# Altium schematic symbol library 龙邱遥控器V1.SCHLIB: 30 symbols
Pins are listed as number, name and electrical type; pins without a type are passive.

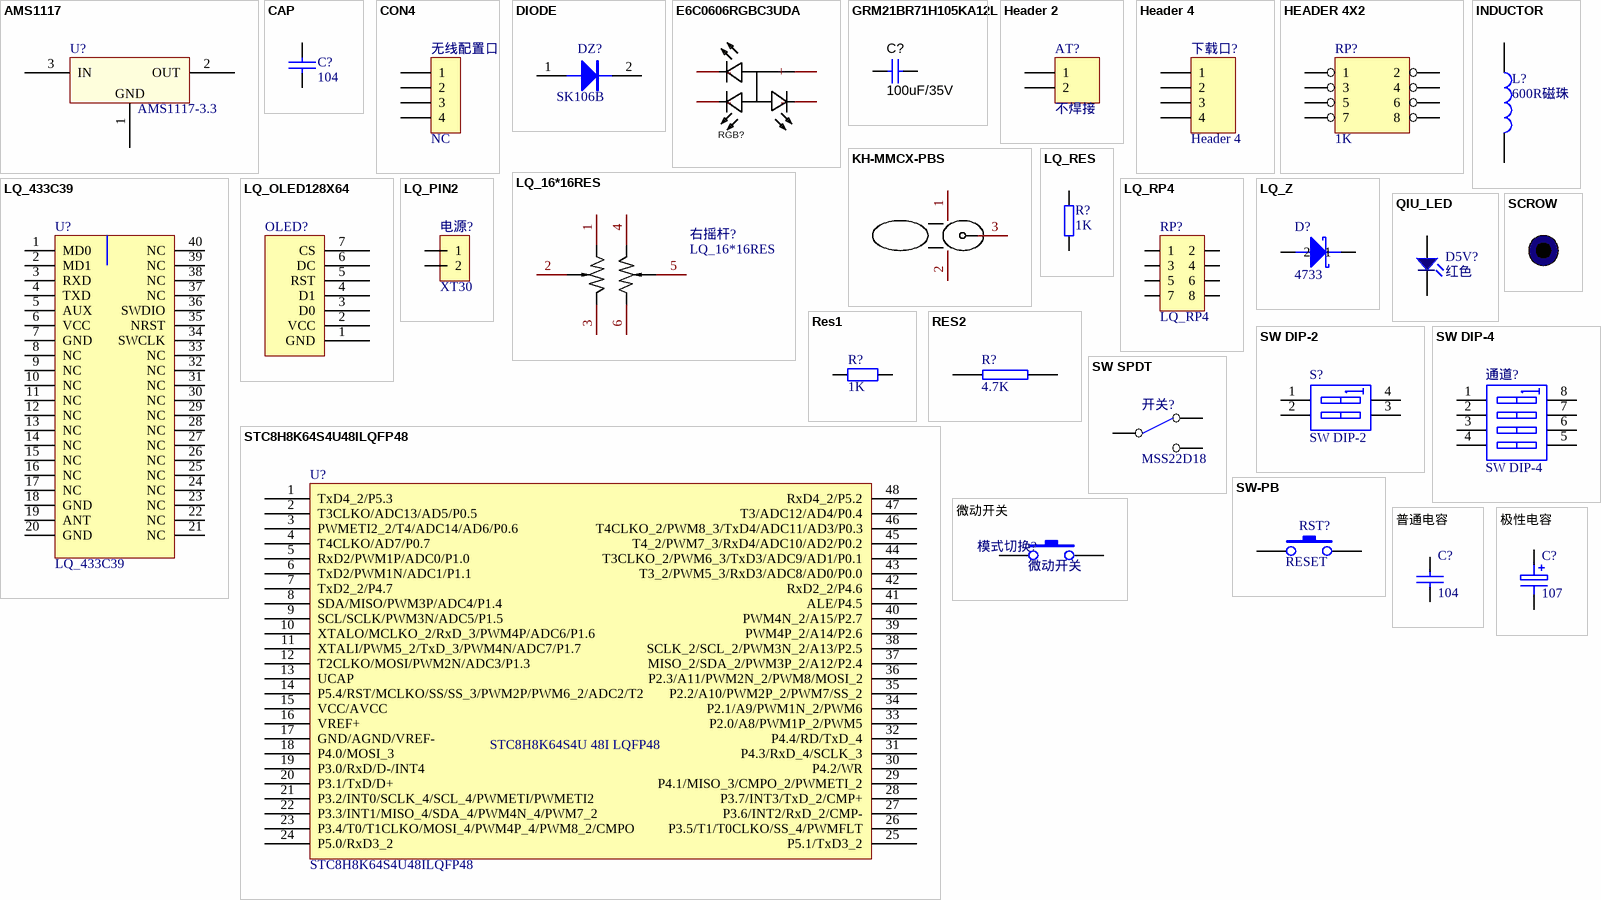
[diagram p0: symbols AMS1117 to 极性电容]

## AMS1117
designator U?, comment AMS1117-3.3
footprint SOT-223
footprint LQ_SOT-223
pins: 1 GND, 2 OUT, 3 IN

## CAP
designator C?, comment 104
Capacitor
footprint LQ_C0603
pins: 1, 2

## CON4
designator 无线配置口?, comment NC
Connector
footprint HDR-TH_4P-P2.54-V-M
pins: 1, 2, 3, 4

## DIODE
designator DZ?, comment SK106B
Diode
footprint LQ_0805
footprint LQ_1210
footprint LQ_1208
footprint LQ_D1812
pins: 1 A, 2 K

## E6C0606RGBC3UDA
designator RGB?  (value not drawn)
Manufacturer: ekinglux(亿晶源); Add into BOM: yes; Emitted Color: RGB三色; Name: E6C0606RGBC3UDA; Symbol: E6C0606RGBC3UDA; Device: E6C0606RGBC3UDA; LCSC Part Name: RGB三色; Supplier Part: C375569; Manufacturer Part: E6C0606RGBC3UDA; Supplier Footprint: 0603; JLCPCB Part Class: Extended Part; Datasheet: https://atta.szlcsc.com/upload/public/pdf/source/20220330/8DE12FB9881A833E867FD7AF6894B416.pdf; Supplier: LCSC; Convert to PCB: yes
footprint LED-SMD_4P-L1.6-W1.6-TL-FD
3D model LED-SMD-4P_L1.6-W1.6-H0.6-LS1.6
pins: 1 -, 2 +, 3 -, 4 -

## GRM21BR71H105KA12L
designator C?, comment 100uF/35V
PartNumber: GRM21BR71H105KA12L; Manufacturer: MuRata; Polarized: N; CompType: Capacitor; Value: 1uF; ValueDisplayed: 1µF; U/M: EA; Cap_F: 0.000001; Tolerance_%: 10; Value1: Unknown; VDC_V: 50; Value2: 50V; TempCo: X7R; TaMin_C: -55; TaMax_C: 125; Cap_Case: 0805; SymbolVersion: 2008-07-09; PackageReference: 0805; RoHS: Y; MountType: SMT; Technology: Ceramic; Published: 2008-06-19; Publisher: Texas Instruments; LatestRevisionDate: 2013-09-06; ComponentLink1Description: Datasheet link; ComponentLink1URL: http://search.murata.co.jp/Ceramy/PnsearchViewAction.do?HnOFG=ON&HnNFG=ON&SEL_CNT=50&sLang=en&sKey=GRM21BR71H105KA12L&x=9&y=9&search=startwith; Supplier 1: Digi-Key; Supplier Part Number 1: 490-4736-1-ND; Supplier 2: Mouser; Supplier Part Number 2: 81-GRM21BR71H105KA2L; Supplier 3: Farnell; Supplier Part Number 3: 1735541
signal-integrity model Cap
simulation model Cap
footprint 0805_HV
footprint 0805
footprint 0805M
footprint 0805L
footprint LQ_C1210
pins: 1, 2

## Header 2
designator AT?, comment 不焊接
Header, 2-Pin; LatestRevisionDate: 17-Jul-2002; LatestRevisionNote: Re-released for DXP Platform.; Publisher: Altium Limited
footprint MHDR1X2 (Connector; Header; 2 Position)
signal-integrity model Connector
pins: 1, 2

## Header 4
designator 下载口?
Header, 4-Pin; LatestRevisionDate: 17-Jul-2002; LatestRevisionNote: Re-released for DXP Platform.; Publisher: Altium Limited
footprint HDR1X4 (Connector; Header; 4 Position)
signal-integrity model Connector
pins: 1, 2, 3, 4

## HEADER 4X2
designator RP?, comment 1K
footprint LQ_0603_4
pins: 1, 2, 3, 4, 5, 6, 7, 8

## INDUCTOR
designator L?, comment 600R磁珠
footprint LQ_R0603
pins: 1, 2

## KH-MMCX-PBS
designator RF?  (value not drawn)
Manufacturer: kinghelm(金航标); Add into BOM: yes; Connector Type: 板端; Interface Type: 内孔; Interface Diameter: 4.5mm; RF Series: MCX/MMCX; Number of Ports: 1; Name: KH-MMCX-PBS; Symbol: KH-MMCX-PBS; Device: KH-MMCX-PBS; LCSC Part Name: MCX/MMCX 内孔 镀金侧插破板式; Supplier Part: C910124; Manufacturer Part: KH-MMCX-PBS; Supplier Footprint: 插件; JLCPCB Part Class: Extended Part; Datasheet: https://atta.szlcsc.com/upload/public/pdf/source/20210317/C910124_30B0715D0BB5CC90FAC8D6D15AAA19EC.pdf; Supplier: LCSC; Convert to PCB: yes; Frequency-Max: -; Impedance: -; Style: -; Interface Length/Height: 4.5mm; Operating Temperature Range: -
footprint ANT-SMD_KH-MMCX-PBS
3D model MMCX-SMD_KH-MMCX-PBS
pins: 1, 2, 3

## LQ_16*16RES
designator 右摇杆?
footprint LQ_16*16RES
pins: 1, 2, 3, 4, 5, 6

## LQ_433C39
designator U?
pins: 1 MD0, 2 MD1, 3 RXD, 4 TXD, 5 AUX, 6 VCC, 7 GND, 8 NC, 9 NC, 10 NC, 11 NC, 12 NC, 13 NC, 14 NC, 15 NC, 16 NC, 17 NC, 18 GND, 19 ANT, 20 GND, 21 NC, 22 NC, 23 NC, 24 NC, 25 NC, 26 NC, 27 NC, 28 NC, 29 NC, 30 NC, 31 NC, 32 NC, 33 NC, 34 SWCLK, 35 NRST, 36 SWDIO, 37 NC, 38 NC, 39 NC, 40 NC

## LQ_OLED128X64
designator OLED?, comment 单排座1x7  (value not drawn)
footprint LQ_OLED&TFTSPI
pins: 1 GND, 2 VCC, 3 D0, 4 D1, 5 RST, 6 DC, 7 CS
2 alternate drawings of the same symbol

## LQ_PIN2
designator 电源?, comment XT30
Jumper
footprint PH2.0-LI-2P (长：5.9mm，宽：4.7mm，高：6mm)
pins: 1, 2

## LQ_RES
designator R?, comment 1K
RES
footprint LQ_0805
footprint LQ_R0603
footprint 0603
pins: 1, 2

## LQ_RP4
designator RP?
footprint LQ_0603_4
pins: 1, 2, 3, 4, 5, 6, 7, 8

## LQ_Z
designator D?, comment 4733
Schottky Diode
footprint LQ_1206D
footprint LQ_1210D
footprint LQ_1812D
footprint LQ_D1206Z
footprint LQ_D0805Z
pins: 1, 2

## QIU_LED
designator D5V?, comment 红色
LED
footprint 1206
footprint QIU_SIP2
footprint LQ_LED0603R
pins: 1, 2

## Res1
designator R?  value 1K  (hidden comment: Res1)
贴片电阻; Published: 8-Jun-2000; LatestRevisionDate: 17-Jul-2002; LatestRevisionNote: Re-released for DXP Platform.; PackageReference: AXIAL-0.4; Publisher: Altium Limited
footprint LQ_0603
footprint LQ_R0603
pins: 1, 2

## RES2
designator R?, comment 4.7K
footprint LQ_R0603
pins: 1, 2

## SCROW
designator SCROW?  (value not drawn)
Connector
footprint LQ_SCROW3&5mm
pins: 1

## STC8H8K64S4U48ILQFP48
designator U?
STC8H8K64S4U 48I LQFP48
footprint LQ_LQFP48S
pins: 1 TxD4_2/P5.3, 2 T3CLKO/ADC13/AD5/P0.5, 3 PWMETI2_2/T4/ADC14/AD6/P0.6, 4 T4CLKO/AD7/P0.7, 5 RxD2/PWM1P/ADC0/P1.0, 6 TxD2/PWM1N/ADC1/P1.1, 7 TxD2_2/P4.7, 8 SDA/MISO/PWM3P/ADC4/P1.4, 9 SCL/SCLK/PWM3N/ADC5/P1.5, 10 XTALO/MCLKO_2/RxD_3/PWM4P/ADC6/P1.6, 11 XTALI/PWM5_2/TxD_3/PWM4N/ADC7/P1.7, 12 T2CLKO/MOSI/PWM2N/ADC3/P1.3, 13 UCAP, 14 P5.4/RST/MCLKO/SS/SS_3/PWM2P/PWM6_2/ADC2/T2, 15 VCC/AVCC, 16 VREF+, 17 GND/AGND/VREF-, 18 P4.0/MOSI_3, 19 P3.0/RxD/D-/INT4, 20 P3.1/TxD/D+, 21 P3.2/INT0/SCLK_4/SCL_4/PWMETI/PWMETI2, 22 P3.3/INT1/MISO_4/SDA_4/PWM4N_4/PWM7_2, 23 P3.4/T0/T1CLKO/MOSI_4/PWM4P_4/PWM8_2/CMPO, 24 P5.0/RxD3_2, 25 P5.1/TxD3_2, 26 P3.5/T1/T0CLKO/SS_4/PWMFLT, 27 P3.6/INT2/RxD_2/CMP-, 28 P3.7/INT3/TxD_2/CMP+, 29 P4.1/MISO_3/CMPO_2/PWMETI_2, 30 P4.2/WR, 31 P4.3/RxD_4/SCLK_3, 32 P4.4/RD/TxD_4, 33 P2.0/A8/PWM1P_2/PWM5, 34 P2.1/A9/PWM1N_2/PWM6, 35 P2.2/A10/PWM2P_2/PWM7/SS_2, 36 P2.3/A11/PWM2N_2/PWM8/MOSI_2, 37 MISO_2/SDA_2/PWM3P_2/A12/P2.4, 38 SCLK_2/SCL_2/PWM3N_2/A13/P2.5, 39 PWM4P_2/A14/P2.6, 40 PWM4N_2/A15/P2.7, 41 ALE/P4.5, 42 RxD2_2/P4.6, 43 T3_2/PWM5_3/RxD3/ADC8/AD0/P0.0, 44 T3CLKO_2/PWM6_3/TxD3/ADC9/AD1/P0.1, 45 T4_2/PWM7_3/RxD4/ADC10/AD2/P0.2, 46 T4CLKO_2/PWM8_3/TxD4/ADC11/AD3/P0.3, 47 T3/ADC12/AD4/P0.4, 48 RxD4_2/P5.2

## SW DIP-2
designator S?
DIP Switch, 2 Position, SPST; Published: 24-Mar-1999; LatestRevisionDate: 17-Jul-2002; LatestRevisionNote: Re-released for DXP Platform.; PackageReference: DIP-4; Publisher: Altium Limited
footprint CSW1.27 SMD-2P (长：4.14mm，宽：5.4mm，高：2.3mm)
pins: 1 A1, 2 A2, 3 B2, 4 B1

## SW DIP-4
designator 通道?
DIP Switch, 4 Position, SPST; Published: 24-Mar-1999; LatestRevisionDate: 29-May-2009; LatestRevisionNote: IPC-7351 Footprint Added.; PackageVersion: Dec-2002; PackageReference: SO8; Publisher: Altium Limited; PackageDescription: 8-Pin Small Outline Integrated Circuit 1.27 mm Pitch; Code_JEDEC: MS-012-AA; Code_IPC: SOIC127P600-8
footprint CSW DIP-4P (11.7*9.9*7mm)
footprint SO8_L (SOIC, 8-Leads, Body 4.9x3.9mm, Pitch 1.27mm, IPC High Density)
footprint SO8_M (SOIC, 8-Leads, Body 4.9x3.9mm, Pitch 1.27mm, IPC Low Density)
simulation model dpsw4 (Spice Subcircuit)
pins: 1 A1, 2 A2, 3 A3, 4 A4, 5 B4, 6 B3, 7 B2, 8 B1

## SW SPDT
designator 开关?, comment MSS22D18
footprint LQ_SW_MSS22D18
pins: 1 COMMON, 2 NC, 3 NO

## SW-PB
designator RST?, comment RESET
footprint LQ_BT2SMT3X4
pins: 1, 2

## 微动开关
designator 模式切换?
footprint LQ_BT4SMT
pins: 1, 2

## 普通电容
designator C?, comment 104
Capacitor
footprint C0603
footprint C3528 (B型)
footprint LQ_C0603
pins: 1, 2

## 极性电容
designator C?, comment 107
footprint C0805
footprint LQ_C1210T
pins: 1, 2 E